# Altium footprint library Components - 27.08.20 - 18.32.PcbLib: 1 footprints
Each footprint in its own frame and in the unit in brackets; x right, y up, seen from the top. Pads: shape width x height; smd on the part's side, far side on the other; paste and mask are expansions set on the pad; w line width, h text height; cw(c..) or ccw(c..) is an arc to the next point about the centre after c.
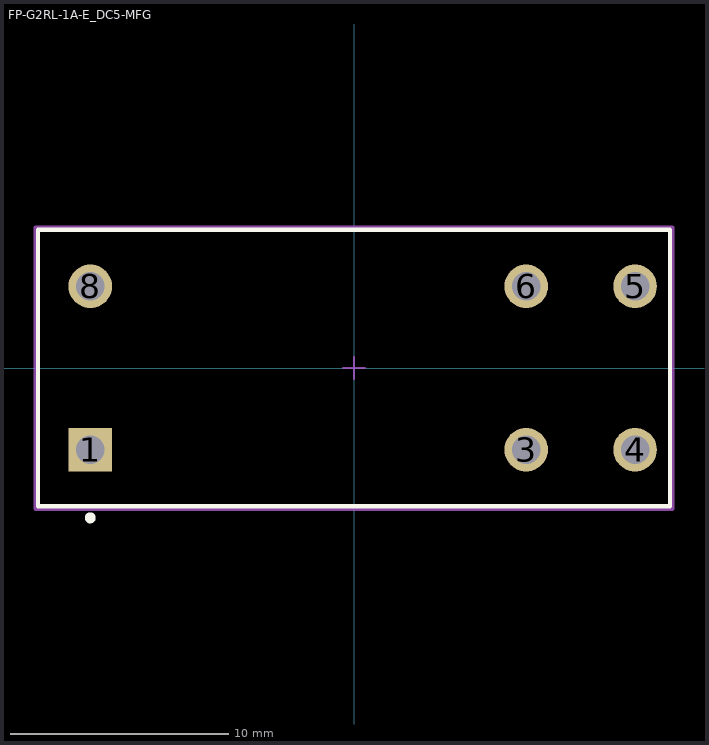
[diagram p0: the footprint, top view; thin cyan lines are the x and y axes]

## FP-G2RL-1A-E_DC5-MFG [mm]
pads (6):
  rect 2x2 hole 1.3 paste-1000 mask+0: 1(-12.1,-3.75)
  round 2 hole 1.3 paste-1000 mask+0: 3(7.9,-3.75) 4(12.9,-3.75) 5(12.9,3.75) 6(7.9,3.75) 8(-12.1,3.75)
Top Overlay:
  circle w0.25: c-12.1,-6.875 r0.125
  lines w0.2: -14.5,-6.35 14.5,-6.35 14.5,6.35 -14.5,6.35 -14.5,-6.35
Mechanical 5:
  lines w0.2: -14.6,-6.45 14.6,-6.45 14.6,6.45 -14.6,6.45 -14.6,-6.45
  text ".Designator" at 0,0.188 h1
Mechanical 13:
  lines w0.2: -14.5,-6.35 14.5,-6.35 14.5,6.35 -14.5,6.35 -14.5,-6.35
Mechanical 15:
  lines w0.2: -14.6,-6.45 14.6,-6.45 14.6,6.45 -14.6,6.45 -14.6,-6.45
Mechanical 16:
  lines w0.1: -0.5,0 0.5,0 ; 0,-0.5 0,0.5
3D body "Relay_Omron_G2RL-1A-E_DC5_eec.STEP": height 0.25, standoff 0, extent -14.6,-6.45 14.6,6.45